# Altium footprint library PcbLib1.PcbLib: 18 footprints (part 2 of 2)
Each footprint in its own frame and in the unit in brackets; x right, y up, seen from the top. Pads: shape width x height; smd on the part's side, far side on the other; paste and mask are expansions set on the pad; w line width, h text height; cw(c..) or ccw(c..) is an arc to the next point about the centre after c.
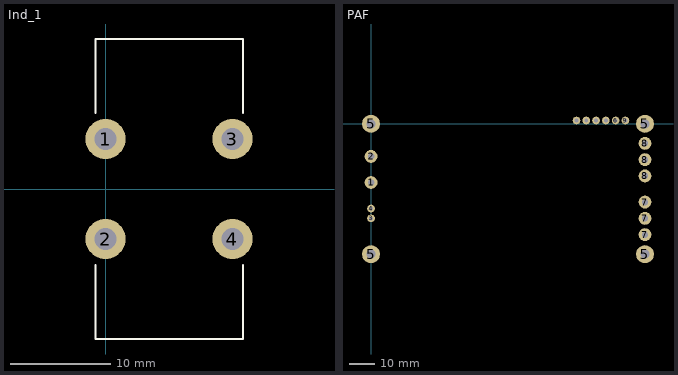
[diagram p1: the footprints below, top view; thin cyan lines are the x and y axes]

## Ind_1 [mm]
pads (4):
  round 4 hole 2.2: 1(0,5) 2(0,-5) 3(12.7,5) 4(12.7,-5)
Top Overlay:
  lines w0.2: -1,-7.62 -1,-15 13.75,-15 13.75,-7.62 ; -1,7.62 -1,15 13.75,15 13.75,7.62
Mechanical 3:
  circle w0.8: c0,-5 r0.4
  circle w0.8: c12.7,-5 r0.4
  circle w0.8: c0,5 r0.4
  circle w0.8: c12.7,5 r0.4
3D body: height 20, standoff 0, extent -1,-14.75 13.75,14.75
3D body: height 34.97, standoff 5.03, extent -1.143,-14.927 13.857,14.955
3D body: height 1, standoff -3, extent -0.992,4.002 1,5.998
3D body: height 1, standoff -3, extent -0.992,-5.998 1,-4.002
3D body: height 1, standoff -3, extent 11.708,4.002 13.7,5.998
3D body: height 1, standoff -3, extent 11.708,-5.998 13.7,-4.002

## PAF [mm]
height -13
pads (20):
  round 5 hole 2.5: 1(0,-22.86) 2(0,-12.7) 7(106.68,-43.18) 7(106.68,-36.83) 7(106.68,-30.48) 8(106.68,-20.32) 8(106.68,-13.97) 8(106.68,-7.62)
  round 3 hole 1.5: 3(0,-36.83) 4(0,-33.02) 6(95.25,1.27) 9(99.06,1.27) 10(91.44,1.27) 11(87.63,1.27) 12(83.82,1.27) 13(80.01,1.27)
  round 7 hole 3.5: 5(0,-50.8) 5(0,0) 5(106.68,-50.8) 5(106.68,0)
Bottom Overlay:
  lines w0.2: -5.08,-55.88 -5.08,5.08 111.75,5.08 111.75,-55.88 -5.08,-55.88
3D body: height -3.7, standoff -13, extent -5.06,-55.8 111.69,5.2